# Altium footprint library AMDC.PcbLib: 35 footprints (part 1 of 3)
Each footprint in its own frame and in the unit in brackets; x right, y up, seen from the top. Pads: shape width x height; smd on the part's side, far side on the other; paste and mask are expansions set on the pad; w line width, h text height; cw(c..) or ccw(c..) is an arc to the next point about the centre after c.
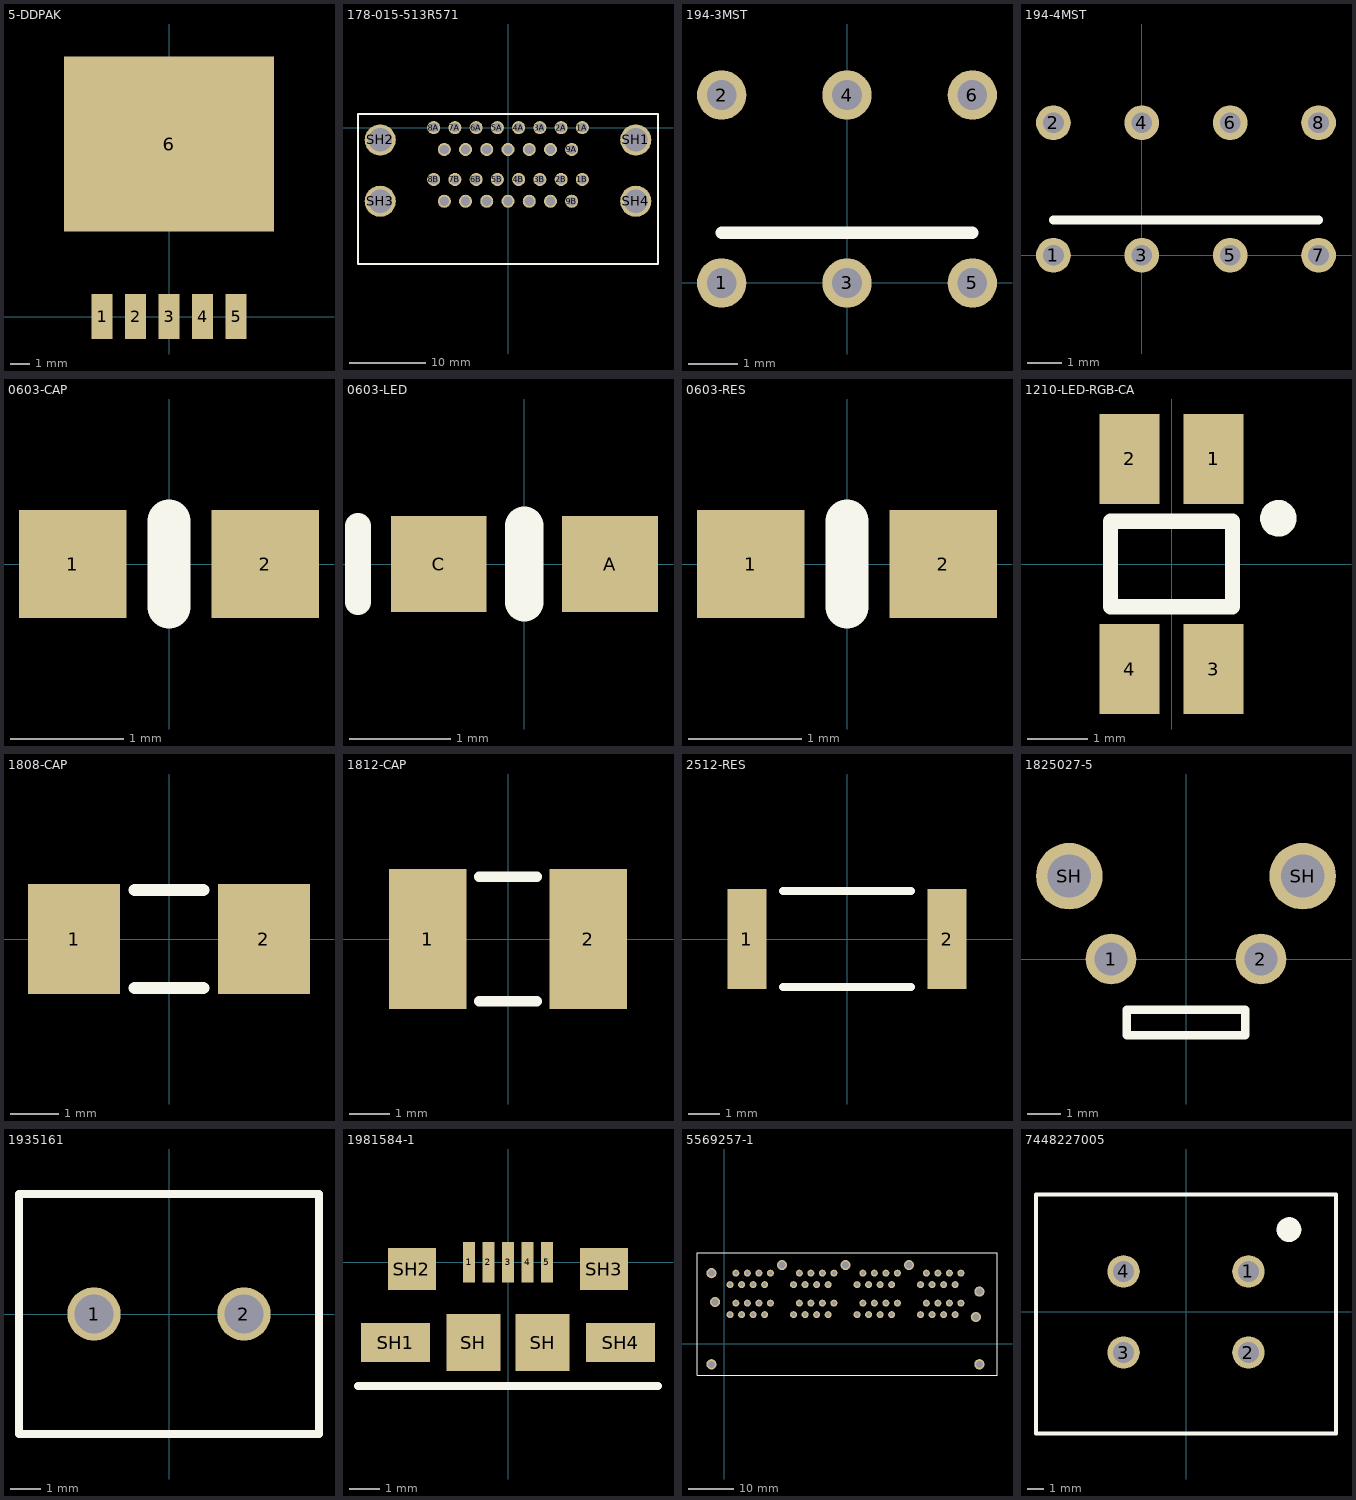
[diagram p0: the footprints below, top view; thin cyan lines are the x and y axes]

## 5-DDPAK [mil] "Q PACKAGE  5-LEAD PLASTIC DD"
height 7.09
pads (6):
  rect 42x90 smd: 1(-134,0) 2(-67,0) 3(0,0) 4(67,0) 5(134,0)
  rect 420x350 smd: 6(0,345)

## 178-015-513R571 [mil] "CONN D-SUB RCPT 15POS R/A SLDR"
height 1250
pads (34):
  round 67 hole 47: 1A(381.5,0) 1B(381.5,-266) 2A(272.5,0) 2B(272.5,-266) 3A(163.5,0) 3B(163.5,-266) 4A(54.5,0) 4B(54.5,-266) 5A(-54.5,0) 5B(-54.5,-266) 6A(-163.5,0) 6B(-163.5,-266) 7A(-272.5,0) 7B(-272.5,-266) 8A(-381.5,0) 8B(-381.5,-266) 9A(327,-112) 9B(327,-378) 10A(218,-112) 10B(218,-378) 11A(109,-112) 11B(109,-378) 12A(0,-112) 12B(0,-378) 13A(-109,-112) 13B(-109,-378) 14A(-218,-112) 14B(-218,-378) 15A(-327,-112) 15B(-327,-378)
  round 160 hole 120: SH1(656,-63) SH2(-656,-63) SH3(-656,-378) SH4(656,-378)
Top Overlay:
  lines w10: -770,-700 -770,-63 -770,70 -500,70 -350,70 770,70 770,30 770,-63 770,-700 -770,-700

## 194-3MST [mm] "SWITCH PIANO DIP SPST 50MA 24V"
pads (6):
  round 1 hole 0.6: 1(-2.54,0) 2(-2.54,3.81) 3(0,0) 4(0,3.81) 5(2.54,0) 6(2.54,3.81)
Top Overlay:
  lines w0.254: -2.54,1.016 2.54,1.016

## 194-4MST [mm] "SWITCH PIANO DIP SPST 50MA 24V"
pads (8):
  round 1 hole 0.6: 1(-2.54,0) 2(-2.54,3.81) 3(0,0) 4(0,3.81) 5(2.54,0) 6(2.54,3.81) 7(5.08,0) 8(5.08,3.81)
Top Overlay:
  lines w0.254: -2.54,1.016 5.08,1.016

## 0603-CAP [mm]
pads (2):
  rect 0.95x0.95 smd: 1(-0.85,0) 2(0.85,0)
Top Overlay:
  lines w0.381: 0,-0.381 0,0.381

## 0603-LED [mm]
pads (2):
  rect 0.95x0.95 smd: A(0.85,0) C(-0.85,0)
Top Overlay:
  lines w0.254: -1.651,-0.381 -1.651,0 -1.651,0.381
  lines w0.381: 0,-0.381 0,0 0,0.381

## 0603-RES [mm]
pads (2):
  rect 0.95x0.95 smd: 1(-0.85,0) 2(0.85,0)
Top Overlay:
  lines w0.381: 0,-0.381 0,0.381

## 1210-LED-RGB-CA [mm]
pads (5):
  rect 1x1.5 smd paste+0 mask+0: 1(0.7,1.75) 1(0.7,1.75) 2(-0.7,1.75) 3(0.7,-1.75) 4(-0.7,-1.75)
Top Overlay:
  circle w0.305: c1.778,0.762 r0.152
  lines w0.254: -1.016,-0.711 1.016,-0.711 1.016,0.711 -1.016,0.711 -1.016,-0.711

## 1808-CAP [mil]
pads (2):
  rect 75x90 smd: 1(-77.48,0) 2(77.48,0)
Top Overlay:
  lines w10: -28,-40 28,-40 ; -28,40 28,40

## 1812-CAP [mil]
pads (2):
  rect 75x135 smd: 1(-77.48,0) 2(77.48,0)
Top Overlay:
  lines w10: -28,-60 28,-60 ; -28,60 28,60

## 2512-RES [mil]
pads (2):
  rect 49x125 smd: 1(-125.51,0) 2(125.51,0)
Top Overlay:
  lines w10: -80,-60 80,-60 ; -80,60 80,60

## 1825027-5 [mm] "SWITCH TACTILE SPST-NO 0.05A 24V"
pads (4):
  round 1.524 hole 0.991: 1(-2.25,0) 2(2.25,0)
  round 2 hole 1.295: SH(-3.505,2.49) SH(3.505,2.49)
Top Overlay:
  lines w0.254: -1.778,-2.286 1.778,-2.286 1.778,-1.524 -1.778,-1.524 -1.778,-2.286

## 1935161 [mil] "TERM BLOCK PCB 2POS 5.0MM GREEN"
height 448.82
pads (2):
  round 70 hole 51.18: 1(-98.42,0) 2(98.42,0)
Top Overlay:
  lines w10: -98.43,157.48 -196.85,157.48 -196.85,-157.48 -118.11,-157.48 ; 0,-157.48 -118.11,-157.48 ; 0,157.48 -118.11,157.48 118.11,157.48 196.85,157.48 196.85,-157.48 118.11,-157.48 -118.11,-157.48

## 1981584-1 [mm] "CONN RCPT MICRO USB TYPE AB"
height 2.51
pads (11):
  rect 0.4x1.35 smd: 1(-1.3,0) 2(-0.65,0) 3(0,0) 4(0.65,0) 5(1.3,0)
  rect 1.8x1.9 smd: SH(-1.15,-2.675) SH(1.15,-2.675)
  rect 2.3x1.3 smd: SH1(-3.75,-2.675) SH4(3.75,-2.675)
  rect 1.6x1.4 smd: SH2(-3.2,-0.225) SH3(3.2,-0.225)
Top Overlay:
  lines w0.254: -5,-4.125 5,-4.125

## 5569257-1 [mm] "CONN MOD JACK 8P8C R/A SHIELDED"
height 25.27
pads (75):
  round 1.524 hole 0.89: 1A(10.16,15.49) 1B(24.13,15.49) 1C(38.1,15.49) 1D(52.07,15.49) 1E(1.27,6.35) 1F(15.24,6.35) 1G(29.21,6.35) 1H(43.18,6.35) 2A(7.62,15.49) 2B(21.59,15.49) 2C(35.56,15.49) 2D(49.53,15.49) 2E(3.81,6.35) 2F(17.78,6.35) 2G(31.75,6.35) 2H(45.72,6.35) 3A(5.08,15.49) 3B(19.05,15.49) 3C(33.02,15.49) 3D(46.99,15.49) 3E(6.35,6.35) 3F(20.32,6.35) 3G(34.29,6.35) 3H(48.26,6.35) 4A(2.54,15.49) 4B(16.51,15.49) 4C(30.48,15.49) 4D(44.45,15.49) 4E(8.89,6.35) 4F(22.86,6.35) 4G(36.83,6.35) 4H(50.8,6.35) 5A(8.89,12.95) 5B(22.86,12.95) 5C(36.83,12.95) 5D(50.8,12.95) 5E(2.54,8.89) 5F(16.51,8.89) 5G(30.48,8.89) 5H(44.45,8.89) 6A(6.35,12.95) 6B(20.32,12.95) 6C(34.29,12.95) 6D(48.26,12.95) 6E(5.08,8.89) 6F(19.05,8.89) 6G(33.02,8.89) 6H(46.99,8.89) 7A(3.81,12.95) 7B(17.78,12.95) 7C(31.75,12.95) 7D(45.72,12.95) 7E(7.62,8.89) 7F(21.59,8.89) 7G(35.56,8.89) 7H(49.53,8.89) 8A(1.27,12.95) 8B(15.24,12.95) 8C(29.21,12.95) 8D(43.18,12.95) 8E(10.16,8.89) 8F(24.13,8.89) 8G(38.1,8.89) 8H(52.07,8.89)
  round 2.25 hole 1.57: SH1(-2.815,-4.57) SH2(-2.03,9.14) SH3(-2.815,15.49) SH4(12.7,17.27) SH5(26.67,17.27) SH6(40.64,17.27) SH7(56.13,11.43) SH8(55.345,5.84) SH9(56.13,-4.57)
  round 3.25 on Drill Guide: ""(0,0) ""(53.34,0)
Top Overlay:
  lines w0.254: -6,-7 60,-7 60,20 -6,20 -6,-7

## 7448227005 [mm] "CMC 450UH 6.5A 2LN TH"
height 22
pads (4):
  round 2 hole 1.3: 1(3.85,2.5) 2(3.85,-2.5) 3(-3.85,-2.5) 4(-3.85,2.5)
Top Overlay:
  circle w0.762: c6.35,5.08 r0.381
  lines w0.254: -9.25,-7.5 9.25,-7.5 9.25,7.25 -9.25,7.25 -9.25,-7.5